# Altium footprint library IND_XAL1580-741MED.PcbLib: 1 footprints
Each footprint in its own frame and in the unit in brackets; x right, y up, seen from the top. Pads: shape width x height; smd on the part's side, far side on the other; paste and mask are expansions set on the pad; w line width, h text height; cw(c..) or ccw(c..) is an arc to the next point about the centre after c.
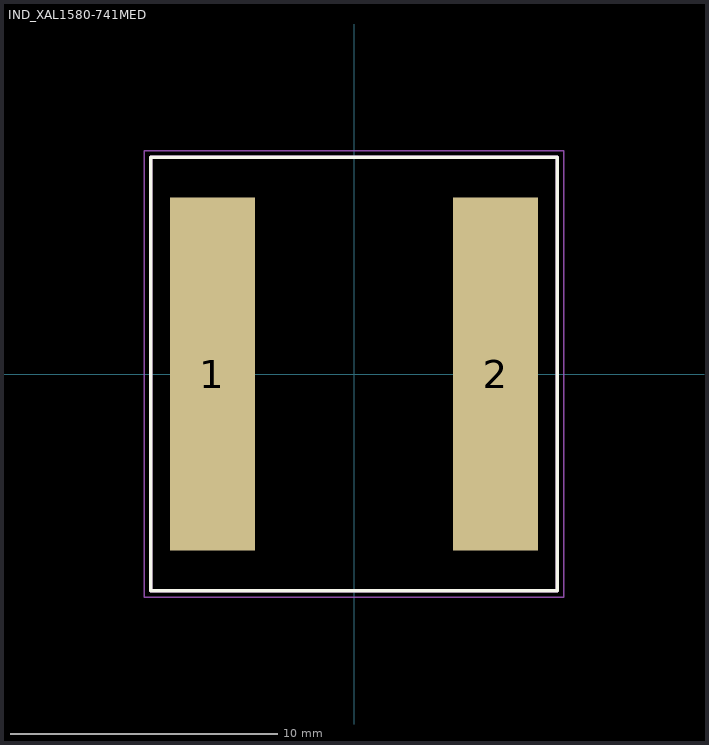
[diagram p0: the footprint, top view; thin cyan lines are the x and y axes]

## IND_XAL1580-741MED [mil]
height 314.96
pads (2):
  rect 125x520 smd: 1(-208.5,0) 2(208.5,0)
Top Overlay:
  lines w5: -299,-319 299,-319 299,319 -299,319 -299,-319
Assembly Top:
  lines w5: -299,-319 299,-319 299,319 -299,319 -299,-319
Courtyard Top:
  lines w1.97: -308.84,-328.84 -308.84,328.84 308.84,328.84 308.84,-328.84 -308.84,-328.84